# Altium footprint library PcbLib1.PcbLib: 98 footprints (part 2 of 7)
Each footprint in its own frame and in the unit in brackets; x right, y up, seen from the top. Pads: shape width x height; smd on the part's side, far side on the other; paste and mask are expansions set on the pad; w line width, h text height; cw(c..) or ccw(c..) is an arc to the next point about the centre after c.
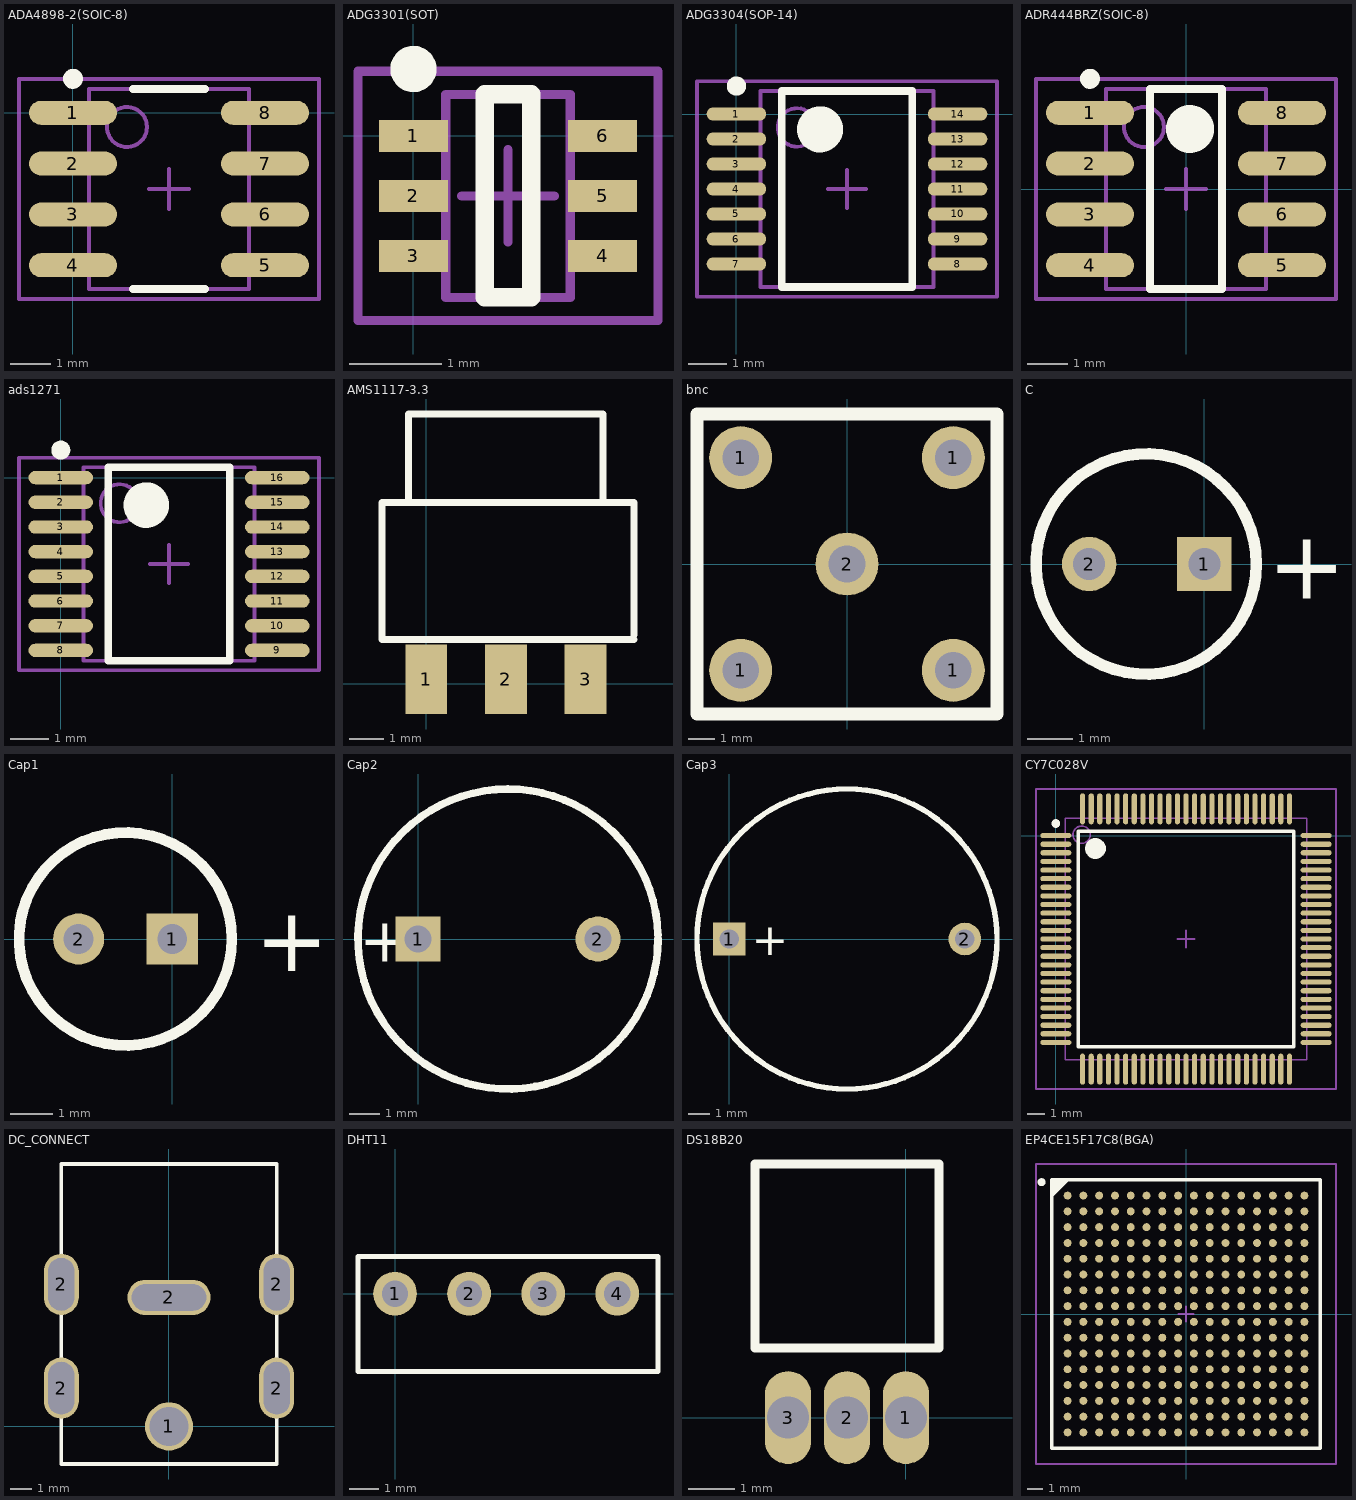
[diagram p1: the footprints below, top view; thin cyan lines are the x and y axes]

## ADA4898-2(SOIC-8) [mm] "SOIC, 8-Leads, Body 5.0x4.0mm (max), Pitch 1.27mm, IPC Medium Density"
height 1.75
pads (8):
  oval 2.2x0.6 smd: 1(0,0) 2(0,-1.27) 3(0,-2.54) 4(0,-3.81) 5(4.8,-3.81) 6(4.8,-2.54) 7(4.8,-1.27) 8(4.8,0)
Top Overlay:
  circle w0.25: c0,0.85 r0.125
  lines w0.2: 1.5,-4.405 3.3,-4.405 ; 1.5,0.595 3.3,0.595
Mechanical 13:
  circle w0.1: c1.35,-0.355 r0.5
  lines w0.1: 0.4,-4.405 0.4,0.595 4.4,0.595 4.4,-4.405 0.4,-4.405
Mechanical 15:
  lines w0.1: 1.9,-1.905 2.9,-1.905 ; 2.4,-2.405 2.4,-1.405 ; -1.35,-4.655 -1.35,0.845 6.15,0.845 6.15,-4.655 -1.35,-4.655
3D body: height 1.75, standoff 0.05, extent 0.4,-4.405 4.4,0.595

## ADG3301(SOT) [mm] "SOT23, 6-Leads, Body 2.2x2.4mm (max), Pitch 0.65mm, IPC Medium Density"
height 1.1
pads (6):
  rect 0.75x0.35 smd: 1(0,0) 2(0,-0.65) 3(0,-1.3) 4(2.05,-1.3) 5(2.05,-0.65) 6(2.05,0)
Top Overlay:
  circle w0.25: c0,0.725 r0.125
  lines w0.2: 0.775,-1.75 1.275,-1.75 1.275,0.45 0.775,0.45 0.775,-1.75
Mechanical 13:
  lines w0.1: 0.35,-1.75 0.35,0.45 1.7,0.45 1.7,-1.75 0.35,-1.75
Mechanical 15:
  lines w0.1: 0.525,-0.65 1.525,-0.65 ; 1.025,-1.15 1.025,-0.15 ; -0.6,-2 -0.6,0.7 2.65,0.7 2.65,-2 -0.6,-2
3D body: height 1.1, standoff 0.1, extent 0.35,-1.75 1.7,0.45

## ADG3304(SOP-14) [mm] "SOP, 14-Leads, Body 5.1x4.5mm (max), Pitch 0.65mm, IPC Medium Density"
height 2.65
pads (14):
  oval 1.55x0.35 smd: 1(0,0) 2(0,-0.65) 3(0,-1.3) 4(0,-1.95) 5(0,-2.6) 6(0,-3.25) 7(0,-3.9) 8(5.75,-3.9) 9(5.75,-3.25) 10(5.75,-2.6) 11(5.75,-1.95) 12(5.75,-1.3) 13(5.75,-0.65) 14(5.75,0)
Top Overlay:
  circle w0.6: c2.175,-0.4 r0.3
  circle w0.25: c0,0.725 r0.125
  lines w0.2: 1.175,-4.5 4.575,-4.5 4.575,0.6 1.175,0.6 1.175,-4.5
Mechanical 13:
  circle w0.1: c1.575,-0.35 r0.5
  lines w0.1: 0.625,-4.5 5.125,-4.5 5.125,0.6 0.625,0.6 0.625,-4.5
Mechanical 15:
  lines w0.1: 2.375,-1.95 3.375,-1.95 ; 2.875,-2.45 2.875,-1.45 ; -1.025,-4.75 6.775,-4.75 6.775,0.85 -1.025,0.85 -1.025,-4.75
3D body: height 2.65, standoff 0.1, extent 0.625,-4.5 5.125,0.6

## ADR444BRZ(SOIC-8) [mm] "SOIC, 8-Leads, Body 5.0x4.0mm (max), Pitch 1.27mm, IPC Medium Density"
height 1.75
pads (8):
  oval 2.2x0.6 smd: 1(-2.4,1.905) 2(-2.4,0.635) 3(-2.4,-0.635) 4(-2.4,-1.905) 5(2.4,-1.905) 6(2.4,-0.635) 7(2.4,0.635) 8(2.4,1.905)
Top Overlay:
  circle w0.25: c-2.4,2.755 r0.125
  circle w0.6: c0.1,1.5 r0.3
  lines w0.2: -0.9,-2.5 -0.9,2.5 0.9,2.5 0.9,-2.5 -0.9,-2.5
Mechanical 13:
  circle w0.1: c-1.05,1.55 r0.5
  lines w0.1: -2,-2.5 -2,2.5 2,2.5 2,-2.5 -2,-2.5
Mechanical 15:
  lines w0.1: -0.5,0 0.5,0 ; 0,-0.5 0,0.5 ; -3.75,-2.75 -3.75,2.75 3.75,2.75 3.75,-2.75 -3.75,-2.75
3D body: height 1.75, standoff 0.05, extent -2,-2.5 2,2.5

## ads1271 [mm] "TSOP, 16-Leads, Body 5.1x4.5mm (max), Pitch 0.65mm, IPC Medium Density"
height 1.2
pads (16):
  oval 1.7x0.35 smd: 1(0,0) 2(0,-0.65) 3(0,-1.3) 4(0,-1.95) 5(0,-2.6) 6(0,-3.25) 7(0,-3.9) 8(0,-4.55) 9(5.7,-4.55) 10(5.7,-3.9) 11(5.7,-3.25) 12(5.7,-2.6) 13(5.7,-1.95) 14(5.7,-1.3) 15(5.7,-0.65) 16(5.7,0)
Top Overlay:
  circle w0.6: c2.25,-0.725 r0.3
  circle w0.25: c0,0.725 r0.125
  lines w0.2: 1.25,-4.825 4.45,-4.825 4.45,0.275 1.25,0.275 1.25,-4.825
Mechanical 13:
  circle w0.1: c1.55,-0.675 r0.5
  lines w0.1: 0.6,-4.825 5.1,-4.825 5.1,0.275 0.6,0.275 0.6,-4.825
Mechanical 15:
  lines w0.1: 2.35,-2.275 3.35,-2.275 ; 2.85,-2.775 2.85,-1.775 ; -1.1,-5.075 6.8,-5.075 6.8,0.525 -1.1,0.525 -1.1,-5.075
3D body: height 1.2, standoff 0.1, extent 0.6,-4.825 5.1,0.275

## AMS1117-3.3 [mm]
pads (3):
  rect 1.2x2 smd: 1(0,0.127) 2(2.29,0.127) 3(4.58,0.127)
Top Overlay:
  lines w0.2: -0.508,5.207 -0.508,7.747 5.08,7.747 5.08,5.334 ; 5.969,1.27 -1.27,1.27 -1.27,5.207 5.969,5.207 5.969,1.397

## bnc [mm]
pads (5):
  round 2.4 hole 1.4: 1(-4.05,-4.05) 1(-4.05,4.05) 1(4.05,-4.05) 1(4.05,4.05) 2(0,0)
Top Overlay:
  lines w0.5: -5.715,-5.715 5.715,-5.715 5.715,5.715 -5.715,5.715 -5.715,-5.715

## C [mm]
pads (2):
  rect 1.2x1.2 hole 0.7: 1(0,0)
  round 1.2 hole 0.7: 2(-2.54,0)
Top Overlay:
  circle w0.254: c-1.283,0 r2.426
  text "+" at 1.397,-0.762 h1.5

## Cap1 [mm]
pads (2):
  rect 1.2x1.2 hole 0.7: 1(0,0)
  round 1.2 hole 0.7: 2(-2.2,0)
Top Overlay:
  circle w0.254: c-1.1,0 r2.5
  text "+" at 1.948,-0.762 h1.5

## Cap2 [mm]
pads (2):
  rect 1.5x1.5 hole 0.9: 1(0,0)
  round 1.5 hole 0.9: 2(6,0)
Top Overlay:
  lines w0.254: 7.998,0.139 ccw(c3,0) 8,0
  text "+" at -1.953,-0.762 h1.5

## Cap3 [mil]
pads (2):
  rect 60x60 hole 35.43: 1(0,0)
  round 60 hole 35.43: 2(433.07,0)
Top Overlay:
  circle w10: c216.54,0 r275.59
  text "+" at 41.54,-30 h59.06

## CY7C028V [mm] "TSQFP, 100-Leads, Body 16.3x16.3mm (max), Pitch 0.50mm, IPC Medium Density"
height 1.6
pads (100):
  oval 1.8x0.3 smd: 1(0,0) 2(0,-0.5) 3(0,-1) 4(0,-1.5) 5(0,-2) 6(0,-2.5) 7(0,-3) 8(0,-3.5) 9(0,-4) 10(0,-4.5) 11(0,-5) 12(0,-5.5) 13(0,-6) 14(0,-6.5) 15(0,-7) 16(0,-7.5) 17(0,-8) 18(0,-8.5) 19(0,-9) 20(0,-9.5) 21(0,-10) 22(0,-10.5) 23(0,-11) 24(0,-11.5) 25(0,-12) 51(15.1,-12) 52(15.1,-11.5) 53(15.1,-11) 54(15.1,-10.5) 55(15.1,-10) 56(15.1,-9.5) 57(15.1,-9) 58(15.1,-8.5) 59(15.1,-8) 60(15.1,-7.5) 61(15.1,-7) 62(15.1,-6.5) 63(15.1,-6) 64(15.1,-5.5) 65(15.1,-5) 66(15.1,-4.5) 67(15.1,-4) 68(15.1,-3.5) 69(15.1,-3) 70(15.1,-2.5) 71(15.1,-2) 72(15.1,-1.5) 73(15.1,-1) 74(15.1,-0.5) 75(15.1,0)
  oval 0.3x1.8 smd: 26(1.55,-13.55) 27(2.05,-13.55) 28(2.55,-13.55) 29(3.05,-13.55) 30(3.55,-13.55) 31(4.05,-13.55) 32(4.55,-13.55) 33(5.05,-13.55) 34(5.55,-13.55) 35(6.05,-13.55) 36(6.55,-13.55) 37(7.05,-13.55) 38(7.55,-13.55) 39(8.05,-13.55) 40(8.55,-13.55) 41(9.05,-13.55) 42(9.55,-13.55) 43(10.05,-13.55) 44(10.55,-13.55) 45(11.05,-13.55) 46(11.55,-13.55) 47(12.05,-13.55) 48(12.55,-13.55) 49(13.05,-13.55) 50(13.55,-13.55) 76(13.55,1.55) 77(13.05,1.55) 78(12.55,1.55) 79(12.05,1.55) 80(11.55,1.55) 81(11.05,1.55) 82(10.55,1.55) 83(10.05,1.55) 84(9.55,1.55) 85(9.05,1.55) 86(8.55,1.55) 87(8.05,1.55) 88(7.55,1.55) 89(7.05,1.55) 90(6.55,1.55) 91(6.05,1.55) 92(5.55,1.55) 93(5.05,1.55) 94(4.55,1.55) 95(4.05,1.55) 96(3.55,1.55) 97(3.05,1.55) 98(2.55,1.55) 99(2.05,1.55) 100(1.55,1.55)
Top Overlay:
  circle w0.25: c0,0.7 r0.125
  circle w0.6: c2.3,-0.75 r0.3
  lines w0.2: 1.3,-12.25 1.3,0.25 13.8,0.25 13.8,-12.25 1.3,-12.25
Mechanical 13:
  circle w0.1: c1.5,0.05 r0.5
  lines w0.1: 0.55,-13 0.55,1 14.55,1 14.55,-13 0.55,-13
Mechanical 15:
  lines w0.1: 7.05,-6 8.05,-6 ; 7.55,-6.5 7.55,-5.5 ; -1.15,-14.7 -1.15,2.7 16.25,2.7 16.25,-14.7 -1.15,-14.7
3D body: height 1.6, standoff 0.2, extent 0.55,-13 14.55,1

## DC_CONNECT [mm]
pads (6):
  round 2.2 hole 1.8: 1(0,0)
  oval 1.6x2.8 hole 1.2 slot 2.4 at 90 deg: 2(-4.925,1.75) 2(-4.925,6.5) 2(4.925,1.75) 2(4.925,6.5)
  oval 3.8x1.6 hole 1.2 slot 3.4 at 0 deg: 2(0,5.9)
Top Overlay:
  lines w0.178: -4.925,-1.716 4.925,-1.716 4.925,12 -4.925,12 -4.925,-1.716

## DHT11 [mm]
pads (4):
  round 1.5 hole 0.9: 1(0,0) 2(2.54,0) 3(5.08,0) 4(7.62,0)
Top Overlay:
  lines w0.178: -1.27,-2.667 9.017,-2.667 9.017,1.27 -1.27,1.27 -1.27,-2.667

## DS18B20 [mm]
pads (3):
  oval 1x2 hole 0.9: 1(0,0) 2(-1.27,0) 3(-2.54,0)
Top Overlay:
  lines w0.2: -3.25,1.5 0.71,1.5 0.71,5.46 -3.25,5.46 -3.25,1.5

## EP4CE15F17C8(BGA) [mm] "BGA, 256-Leads, Body 17x17mm, Pitch 1mm"
height 2.2
pads (256):
  round 0.5 smd: A1(-7.5,7.5) A2(-6.5,7.5) A3(-5.5,7.5) A4(-4.5,7.5) A5(-3.5,7.5) A6(-2.5,7.5) A7(-1.5,7.5) A8(-0.5,7.5) A9(0.5,7.5) A10(1.5,7.5) A11(2.5,7.5) A12(3.5,7.5) A13(4.5,7.5) A14(5.5,7.5) A15(6.5,7.5) A16(7.5,7.5) B1(-7.5,6.5) B2(-6.5,6.5) B3(-5.5,6.5) B4(-4.5,6.5) B5(-3.5,6.5) B6(-2.5,6.5) B7(-1.5,6.5) B8(-0.5,6.5) B9(0.5,6.5) B10(1.5,6.5) B11(2.5,6.5) B12(3.5,6.5) B13(4.5,6.5) B14(5.5,6.5) B15(6.5,6.5) B16(7.5,6.5) C1(-7.5,5.5) C2(-6.5,5.5) C3(-5.5,5.5) C4(-4.5,5.5) C5(-3.5,5.5) C6(-2.5,5.5) C7(-1.5,5.5) C8(-0.5,5.5) C9(0.5,5.5) C10(1.5,5.5) C11(2.5,5.5) C12(3.5,5.5) C13(4.5,5.5) C14(5.5,5.5) C15(6.5,5.5) C16(7.5,5.5) D1(-7.5,4.5) D2(-6.5,4.5) D3(-5.5,4.5) D4(-4.5,4.5) D5(-3.5,4.5) D6(-2.5,4.5) D7(-1.5,4.5) D8(-0.5,4.5) D9(0.5,4.5) D10(1.5,4.5) D11(2.5,4.5) D12(3.5,4.5) D13(4.5,4.5) D14(5.5,4.5) D15(6.5,4.5) D16(7.5,4.5) E1(-7.5,3.5) E2(-6.5,3.5) E3(-5.5,3.5) E4(-4.5,3.5) E5(-3.5,3.5) E6(-2.5,3.5) E7(-1.5,3.5) E8(-0.5,3.5) E9(0.5,3.5) E10(1.5,3.5) E11(2.5,3.5) E12(3.5,3.5) E13(4.5,3.5) E14(5.5,3.5) E15(6.5,3.5) E16(7.5,3.5) F1(-7.5,2.5) F2(-6.5,2.5) F3(-5.5,2.5) F4(-4.5,2.5) F5(-3.5,2.5) F6(-2.5,2.5) F7(-1.5,2.5) F8(-0.5,2.5) F9(0.5,2.5) F10(1.5,2.5) F11(2.5,2.5) F12(3.5,2.5) F13(4.5,2.5) F14(5.5,2.5) F15(6.5,2.5) F16(7.5,2.5) G1(-7.5,1.5) G2(-6.5,1.5) G3(-5.5,1.5) G4(-4.5,1.5) G5(-3.5,1.5) G6(-2.5,1.5) G7(-1.5,1.5) G8(-0.5,1.5) G9(0.5,1.5) G10(1.5,1.5) G11(2.5,1.5) G12(3.5,1.5) G13(4.5,1.5) G14(5.5,1.5) G15(6.5,1.5) G16(7.5,1.5) H1(-7.5,0.5) H2(-6.5,0.5) H3(-5.5,0.5) H4(-4.5,0.5) H5(-3.5,0.5) H6(-2.5,0.5) H7(-1.5,0.5) H8(-0.5,0.5) H9(0.5,0.5) H10(1.5,0.5) H11(2.5,0.5) H12(3.5,0.5) H13(4.5,0.5) H14(5.5,0.5) H15(6.5,0.5) H16(7.5,0.5) J1(-7.5,-0.5) J2(-6.5,-0.5) J3(-5.5,-0.5) J4(-4.5,-0.5) J5(-3.5,-0.5) J6(-2.5,-0.5) J7(-1.5,-0.5) J8(-0.5,-0.5) J9(0.5,-0.5) J10(1.5,-0.5) J11(2.5,-0.5) J12(3.5,-0.5) J13(4.5,-0.5) J14(5.5,-0.5) J15(6.5,-0.5) J16(7.5,-0.5) K1(-7.5,-1.5) K2(-6.5,-1.5) K3(-5.5,-1.5) K4(-4.5,-1.5) K5(-3.5,-1.5) K6(-2.5,-1.5) K7(-1.5,-1.5) K8(-0.5,-1.5) K9(0.5,-1.5) K10(1.5,-1.5) K11(2.5,-1.5) K12(3.5,-1.5) K13(4.5,-1.5) K14(5.5,-1.5) K15(6.5,-1.5) K16(7.5,-1.5) L1(-7.5,-2.5) L2(-6.5,-2.5) L3(-5.5,-2.5) L4(-4.5,-2.5) L5(-3.5,-2.5) L6(-2.5,-2.5) L7(-1.5,-2.5) L8(-0.5,-2.5) L9(0.5,-2.5) L10(1.5,-2.5) L11(2.5,-2.5) L12(3.5,-2.5) L13(4.5,-2.5) L14(5.5,-2.5) L15(6.5,-2.5) L16(7.5,-2.5) M1(-7.5,-3.5) M2(-6.5,-3.5) M3(-5.5,-3.5) M4(-4.5,-3.5) M5(-3.5,-3.5) M6(-2.5,-3.5) M7(-1.5,-3.5) M8(-0.5,-3.5) M9(0.5,-3.5) M10(1.5,-3.5) M11(2.5,-3.5) M12(3.5,-3.5) M13(4.5,-3.5) M14(5.5,-3.5) M15(6.5,-3.5) M16(7.5,-3.5) N1(-7.5,-4.5) N2(-6.5,-4.5) N3(-5.5,-4.5) N4(-4.5,-4.5) N5(-3.5,-4.5) N6(-2.5,-4.5) N7(-1.5,-4.5) N8(-0.5,-4.5) N9(0.5,-4.5) N10(1.5,-4.5) N11(2.5,-4.5) N12(3.5,-4.5) N13(4.5,-4.5) N14(5.5,-4.5) N15(6.5,-4.5) N16(7.5,-4.5) P1(-7.5,-5.5) P2(-6.5,-5.5) P3(-5.5,-5.5) P4(-4.5,-5.5) P5(-3.5,-5.5) P6(-2.5,-5.5) P7(-1.5,-5.5) P8(-0.5,-5.5) P9(0.5,-5.5) P10(1.5,-5.5) P11(2.5,-5.5) P12(3.5,-5.5) P13(4.5,-5.5) P14(5.5,-5.5) P15(6.5,-5.5) P16(7.5,-5.5) R1(-7.5,-6.5) R2(-6.5,-6.5) R3(-5.5,-6.5) R4(-4.5,-6.5) R5(-3.5,-6.5) R6(-2.5,-6.5) R7(-1.5,-6.5) R8(-0.5,-6.5) R9(0.5,-6.5) R10(1.5,-6.5) R11(2.5,-6.5) R12(3.5,-6.5) R13(4.5,-6.5) R14(5.5,-6.5) R15(6.5,-6.5) R16(7.5,-6.5) T1(-7.5,-7.5) T2(-6.5,-7.5) T3(-5.5,-7.5) T4(-4.5,-7.5) T5(-3.5,-7.5) T6(-2.5,-7.5) T7(-1.5,-7.5) T8(-0.5,-7.5) T9(0.5,-7.5) T10(1.5,-7.5) T11(2.5,-7.5) T12(3.5,-7.5) T13(4.5,-7.5) T14(5.5,-7.5) T15(6.5,-7.5) T16(7.5,-7.5)
Top Overlay:
  circle w0.25: c-9.15,8.35 r0.125
  region: -7.5,8.5 -8.5,7.5 -8.5,8.5
  lines w0.2: -8.5,7.5 -7.5,8.5 ; -8.5,-8.5 8.5,-8.5 8.5,8.5 -8.5,8.5 -8.5,-8.5
Mechanical 13:
  lines w0.1: -8.5,-8.5 8.5,-8.5 8.5,8.5 -8.5,8.5 -8.5,-8.5
Mechanical 15:
  lines w0.1: -0.5,0 0.5,0 ; 0,-0.5 0,0.5 ; -9.5,-9.5 9.5,-9.5 9.5,9.5 -9.5,9.5 -9.5,-9.5
3D body: height 2.2, standoff 0, extent -8.5,-8.5 8.5,8.5